# EAGLE library part DUMMY (library connector)
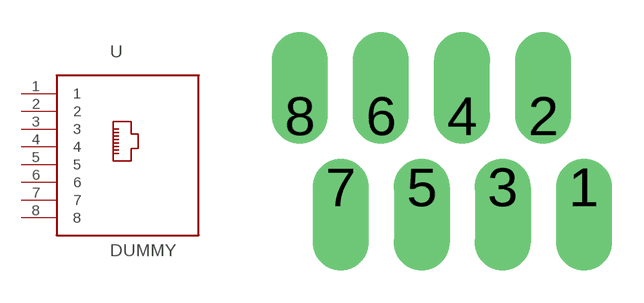
[diagram p1: symbol with the pads of DUMMY; footprint DUMMY]

Designator prefix -

## DUMMY  [DUMMY]
1  1
2  2
3  3
4  4
5  5
6  6
7  7
8  8

## Footprint DUMMY (pad centres in mm)
drill 0.89 pad 1.25 offset: 1 7.11,-1.78; 2 6.09,0; 3 5.08,-1.78; 4 4.06,0; 5 3.05,-1.78; 6 2.03,0; 7 1.02,-1.78; 8 0,0